# EAGLE library part LED_MATRIX_2IN (library ELEC327 copy)
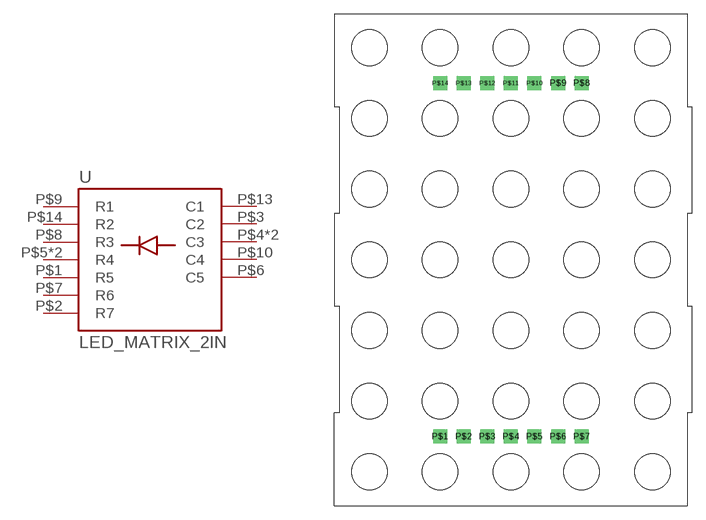
[diagram p3: symbol with the pads of LED_MATRIX_5_7; footprint LED_MATRIX_5_7]

Designator prefix -

## LED_MATRIX_2IN  [LED_MATRIX_5_7]
P$1  R5  pas
P$2  R7  pas
P$3  C2  pas
P$4  C3  pas
P$5  R4  pas
P$6  C5  pas
P$7  R6  pas
P$8  R3  pas
P$9  R1  pas
P$10  C4  pas
P$11  C3  pas
P$12  R4  pas
P$13  C1  pas
P$14  R2  pas

## Footprint LED_MATRIX_5_7 (pad centres in mm)
drill 1 square: P$1 -7.62,-19.05; P$2 -5.08,-19.05; P$3 -2.54,-19.05; P$4 0,-19.05; P$5 2.54,-19.05; P$6 5.08,-19.05; P$7 7.62,-19.05; P$8 7.62,19.05; P$9 5.08,19.05; P$10 2.54,19.05; P$11 0,19.05; P$12 -2.54,19.05; P$13 -5.08,19.05; P$14 -7.62,19.05